# EAGLE library part NCP1522BMU (library IC)
3 MHz, 600mA Step-Down DC-DC Converter
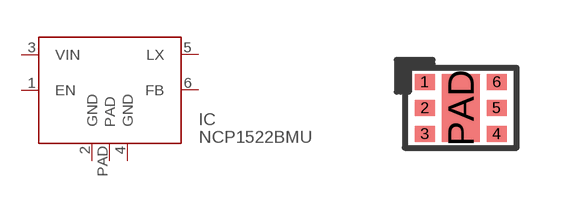
[diagram p168: symbol with the pads of UDFN6; footprint UDFN6]

Designator prefix IC

## NCP1522BMU  [UDFN6]
1  EN
2  GND
3  VIN
4  GND
5  LX
6  FB
PAD  PAD

## Footprint UDFN6 (pad centres in mm)
smd 0.5 x 0.4: 1 -0.9,0.65; 2 -0.9,0; 3 -0.9,-0.65; 4 0.9,-0.65; 5 0.9,0; 6 0.9,0.65
smd 0.95 x 1.7: PAD 0,0